# Altium schematic symbol library MOSFET-N BS126.Schlib: 1 symbol
Pins are listed as number, name and electrical type; pins without a type are passive.

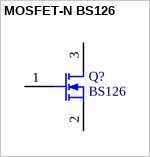
[diagram p0: symbol MOSFET-N BS126]

## MOSFET-N BS126
designator Q?, comment BS126
N-Channel MOSFET
pins: 1 G, 2 S, 3 D